# EAGLE library part 1X12 (library headers-1mm)
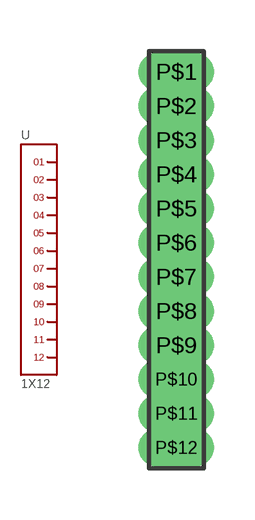
[diagram p2: symbol with the pads of 1X12_1MM; footprint 1X12_1MM]

Designator prefix -

## 1X12  [1X12_1MM]
P$1  1
P$2  2
P$3  3
P$4  4
P$5  5
P$6  6
P$7  7
P$8  8
P$9  9
P$10  10
P$11  11
P$12  12

## Footprint 1X12_1MM (pad centres in mm)
drill 0.6 pad 0.5 long: P$1 0,0
drill 0.6 pad 0.7 long: P$2 0,-1; P$3 0,-2; P$4 0,-3; P$5 0,-4; P$6 0,-5; P$7 0,-6; P$8 0,-7; P$9 0,-8; P$10 0,-9; P$11 0,-10; P$12 0,-11